# Altium footprint library STM32F1_CNC_PcbLib.PcbLib: 33 footprints (part 1 of 3)
Each footprint in its own frame and in the unit in brackets; x right, y up, seen from the top. Pads: shape width x height; smd on the part's side, far side on the other; paste and mask are expansions set on the pad; w line width, h text height; cw(c..) or ccw(c..) is an arc to the next point about the centre after c.
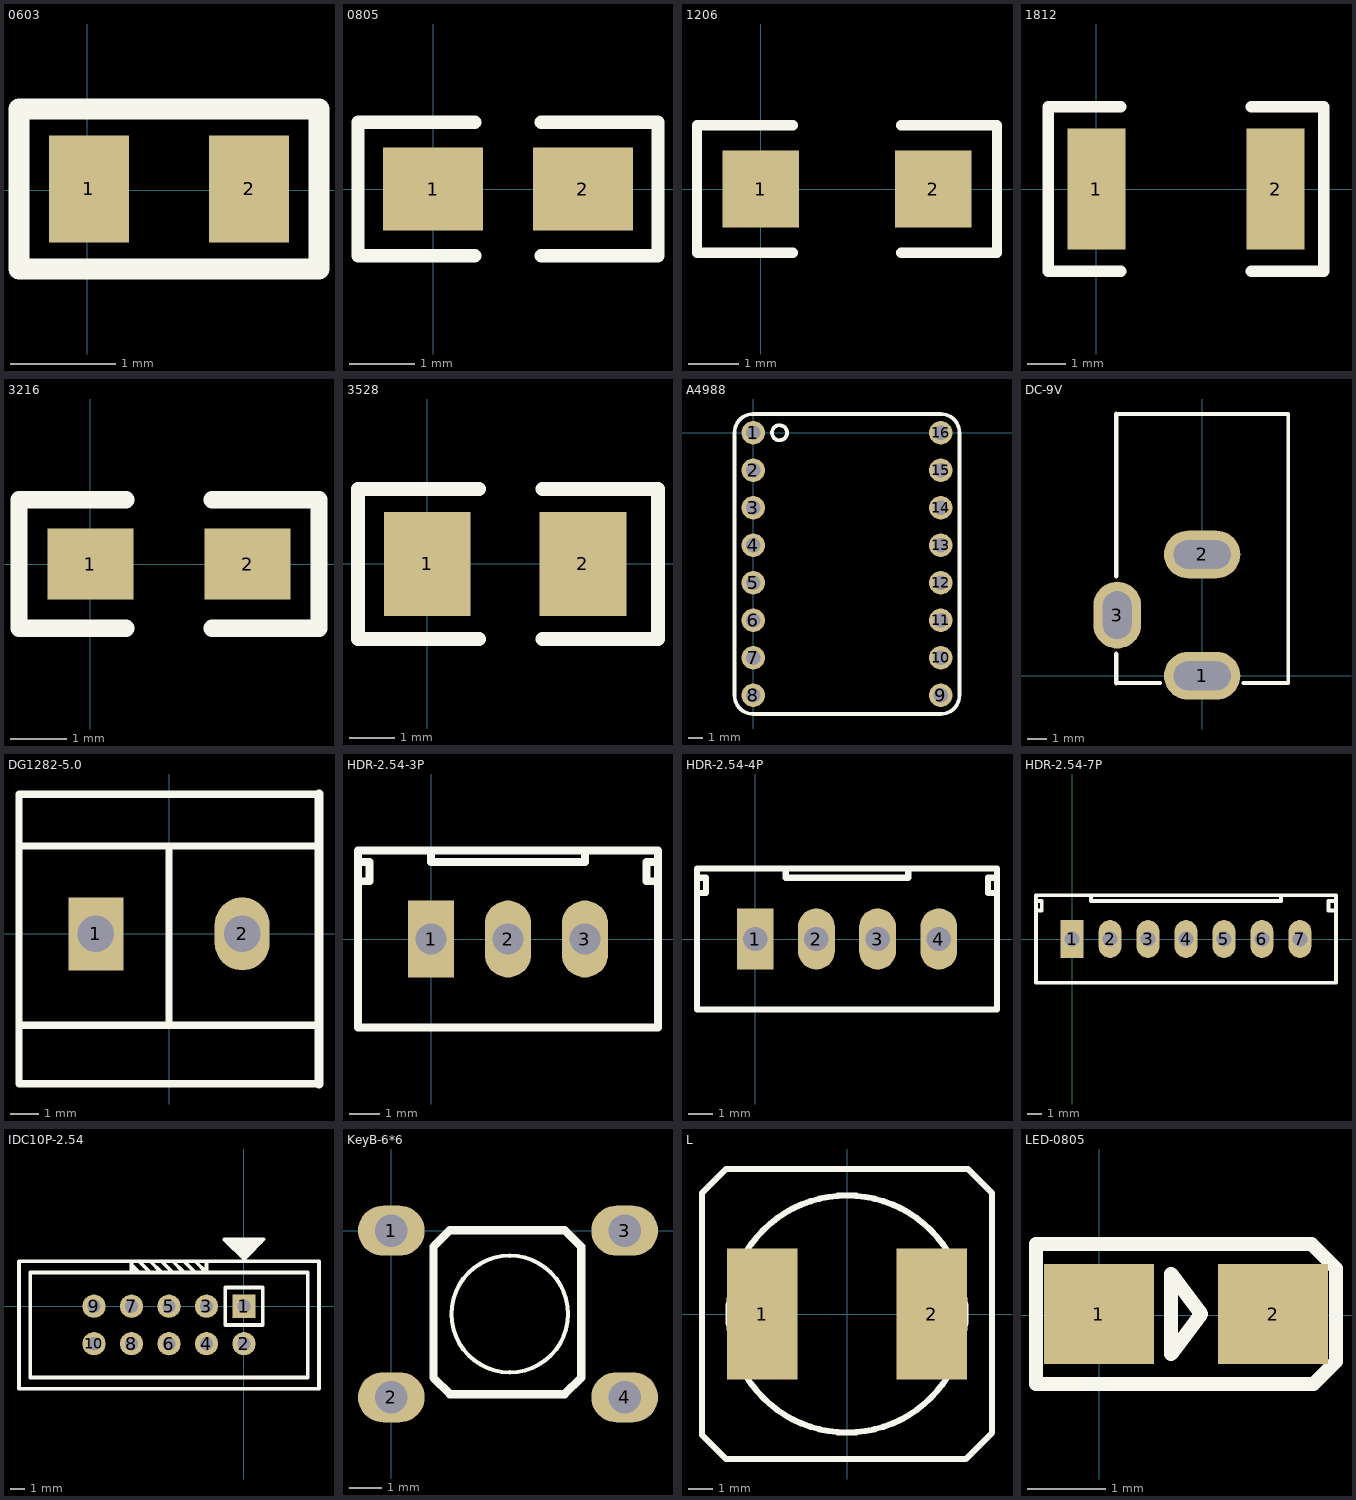
[diagram p0: the footprints below, top view; thin cyan lines are the x and y axes]

## 0603 [mil]
pads (2):
  rect 30x40 smd: 1(0.66,0.41) 2(60.66,0.41)
Top Overlay:
  lines w7.87: 86.8,-29.63 86.8,30.41 -25.48,30.41 -25.48,-29.59 86.8,-29.59

## 0805 [mil]
pads (2):
  rect 60x50 smd: 1(0,0) 2(90,0)
Top Overlay:
  lines w8: 25,-40 -45,-40 -45,40 25,40 ; 65,-40 135,-40 135,40 65,40

## 1206 [mil]
pads (2):
  rect 60x60 smd: 1(0,0) 2(135,0)
Top Overlay:
  lines w8: 25,-50 -50,-50 -50,50 25,50 ; 110,-50 185,-50 185,50 110,50

## 1812 [mil]
pads (2):
  rect 60x125 smd: 1(0,0) 2(185,0)
Top Overlay:
  lines w12: 25,-85 -50,-85 -50,85 25,85 ; 160,-85 235,-85 235,85 160,85

## 3216 [mil]
pads (2):
  rect 60x50 smd: 1(0,0) 2(110,0)
Top Overlay:
  lines w12: 25,-45 -50,-45 -50,45 25,45 ; 85,-45 160,-45 160,45 85,45

## 3528 [mil]
pads (2):
  rect 75x90 smd: 1(0,0) 2(135,0)
Top Overlay:
  lines w12: 45,-65 -60,-65 -60,65 45,65 ; 100,-65 200,-65 200,65 100,65

## A4988 [mm]
height 10
pads (16):
  round 1.6 hole 1: 1(0,0) 2(0,-2.54) 3(0,-5.08) 4(0,-7.62) 5(0,-10.16) 6(0,-12.7) 7(0,-15.24) 8(0,-17.78) 9(12.7,-17.78) 10(12.7,-15.24) 11(12.7,-12.7) 12(12.7,-10.16) 13(12.7,-7.62) 14(12.7,-5.08) 15(12.7,-2.54) 16(12.7,0)
Top Overlay:
  circle w0.254: c1.778,0 r0.508
  lines w0.254: -1.27,-17.78 ccw(c0,-17.78) 0,-19.05 12.7,-19.05 ccw(c12.7,-17.78) 13.97,-17.78 13.97,0 ccw(c12.7,0) 12.7,1.27 0,1.27 ccw(c0,0) -1.27,0 -1.27,-17.78

## DC-9V [mm]
pads (3):
  oval 4x2.5 hole 1.5 slot 3 at 0 deg: 1(0,0) 2(0,6.35)
  oval 2.5x3.5 hole 1.5 slot 2.5 at 90 deg: 3(-4.445,3.175)
Top Overlay:
  lines w0.2: -4.5,-0.381 -2.2,-0.381 ; -4.5,13.7 4.5,13.7 4.5,-0.381 2.159,-0.381
  lines w0.254: -4.5,-0.381 -4.5,1.143 ; -4.5,5.207 -4.5,13.7

## DG1282-5.0 [mm]
pads (2):
  rect 1.905x2.54 hole 1.27: 1(-2.54,0)
  oval 1.905x2.54 hole 1.27: 2(2.54,0)
Top Overlay:
  lines w0.254: -5.207,-5.156 -5.207,-5.207 5.207,-5.207 ; -5.207,-5.08 -5.207,4.851 5.207,4.851 ; -5.207,-3.175 5.207,-3.175 ; -5.207,3.048 5.207,3.048 ; 0,-3.15 0,3.048
  lines w0.305: 5.207,-5.207 5.207,4.851

## HDR-2.54-3P [mil] "HDR-2.54mm-3P"
pads (3):
  rect 60x100 hole 40: 1(0,0)
  oval 60x100 hole 40: 2(100,0) 3(200,0)
Top Overlay:
  lines w10: -95,75 -80,75 -80,100 -95,100 ; 0,115 0,100 200,100 200,115 ; 135,-115 295,-115 295,115 -95,115 -95,-115 195,-115 ; 295,75 280,75 280,100 295,100

## HDR-2.54-4P [mil] "HDR-2.54mm-4P"
pads (4):
  rect 60x100 hole 40: 1(0,0)
  oval 60x100 hole 40: 2(100,0) 3(200,0) 4(300,0)
Top Overlay:
  lines w10: -95,75 -80,75 -80,100 -95,100 ; 50,115 50,100 250,100 250,115 ; 395,75 380,75 380,100 395,100 ; -95,-115 -95,115 395,115 395,-115 -95,-115

## HDR-2.54-7P [mil] "HDR-2.54mm-7P"
pads (7):
  rect 60x100 hole 40: 1(0,0)
  oval 60x100 hole 40: 2(100,0) 3(200,0) 4(300,0) 5(400,0) 6(500,0) 7(600,0)
Top Overlay:
  lines w10: -95,75 -80,75 -80,100 -95,100 ; 50,110 50,100 550,100 550,115 ; 690,75 675,75 675,100 690,100 ; -95,-115 695,-115 695,115 -95,115 -95,-115

## IDC10P-2.54 [mil]
pads (10):
  rect 62x62 hole 35: 1(0,0)
  round 62 hole 35: 2(0,-100) 3(-100,0) 4(-100,-100) 5(-200,0) 6(-200,-100) 7(-300,0) 8(-300,-100) 9(-400,0) 10(-400,-100)
Top Overlay:
  lines w10: -300,90 -300,120 -300,110 -280,90 ; -280,120 -250,90 ; -250,120 -220,90 ; -220,120 -190,90 ; -190,120 -160,90 ; -160,120 -130,90 ; -130,120 -100,90 -100,120 ; -32.28,162.2 -32.21,162.27 36.68,162.27 ; -24.8,153.94 -24.31,153.45 27.86,153.45 ; -19.68,178.35 -51.97,178.35 -52.36,177.95 -51.97,177.95 0.63,125.35 0.79,125.35 -0.39,125.35 -0.24,125.35 52.76,178.35 -35.04,178.35 -38.46,170.99 45.4,170.99 ; -12.17,144.85 19.26,144.85 ; -5.23,137.51 11.92,137.51 ; -600,-220 -600,120 -500,120 200,120 200,-220 -500,-220 -600,-220 ; -570,-190 -570,90 170,90 170,-190 -570,-190 ; -50,-50 -50,50 50,50 50,-50 -50,-50

## KeyB-6*6 [mil] "KeyB-6*6*5mm"
height 196.85
pads (4):
  oval 80x60 hole 39.37: 1(0,0) 2(0,-200) 3(280,0) 4(280,-200)
Top Overlay:
  circle w5: c142.13,-100 r70
  lines w10: 70.24,-196.22 50.55,-176.54 50.55,-19.06 70.24,0.63 208.03,0.63 227.72,-19.06 227.72,-176.54 208.03,-196.22 70.24,-196.22 ; 70.24,-196.22 70.24,-196.22

## L [mm] "12*12*7"
height 7
pads (2):
  rect 2.9x5.4 smd: 1(-3.5,0) 2(3.5,0)
Top Overlay:
  circle w0.254: c0,0 r4.9
  lines w0.254: -6,-5 -5,-6 4.9,-6 6,-4.9 6,5 5,6 -5,6 -6,5 -6,-5

## LED-0805 [mm] "LED-0805"
pads (2):
  rect 1.4x1.27 smd: 1(-0.003,0.013) 2(2.207,0.013)
Top Overlay:
  lines w0.178: -0.803,-0.876 2.724,-0.876 3.007,-0.593 3.007,0.593 2.698,0.902 -0.803,0.902 -0.803,0.013 -0.803,-0.876 ; 0.913,-0.495 1.294,0.013 0.913,0.521 0.913,-0.495